# Altium footprint library servo.PcbLib: 33 footprints (part 1 of 3)
Each footprint in its own frame and in the unit in brackets; x right, y up, seen from the top. Pads: shape width x height; smd on the part's side, far side on the other; paste and mask are expansions set on the pad; w line width, h text height; cw(c..) or ccw(c..) is an arc to the next point about the centre after c.
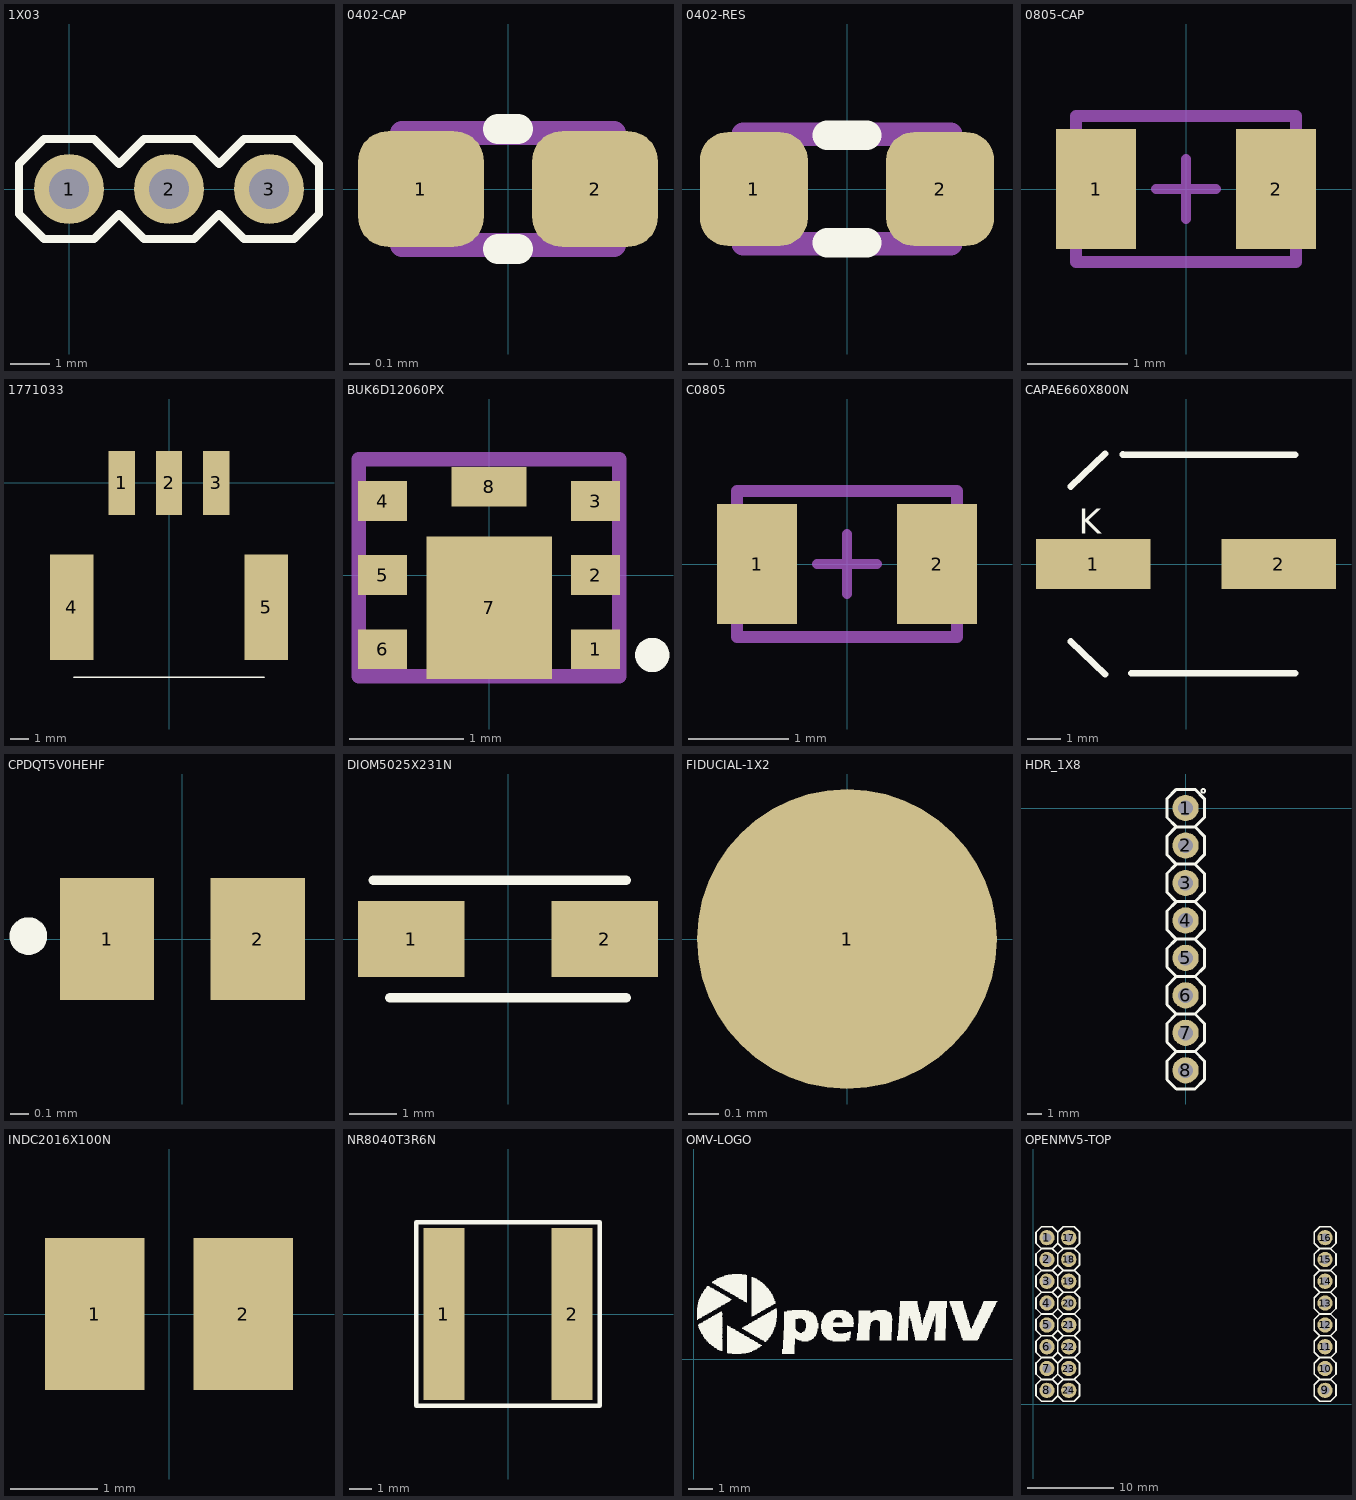
[diagram p0: the footprints below, top view; thin cyan lines are the x and y axes]

## 1X03 [mil] "1X03"
pads (3):
  round 70 hole 40: 1(0,0) 2(100,0) 3(200,0)
Top Overlay:
  lines w8: -50,-25 -25,-50 25,-50 50,-25 75,-50 125,-50 150,-25 175,-50 225,-50 250,-25 250,25 225,50 175,50 150,25 125,50 75,50 50,25 25,50 -25,50 -50,25 -50,-25

## 0402-CAP [mm] "0402-CAP"
pads (2):
  rrect52% 0.63x0.58 smd mask+0.05: 1(-0.435,0) 2(0.435,0)
Top Overlay:
  lines w0.15: -0.05,-0.3 0.05,-0.3 ; -0.05,0.3 0.05,0.3
Mechanical 13:
  lines w0.12: -0.53,-0.28 -0.53,0.28 0.53,0.28 0.53,-0.28 -0.53,-0.28
  text ".designator" at -0.432,-0.178 h0.3
3D body "CAP-0402.stp": height 0.5, standoff 0, extent -0.5,-0.25 0.5,0.25

## 0402-RES [mm] "0402-RES"
pads (2):
  rrect51% 0.55x0.58 smd mask+0.05: 1(-0.475,0) 2(0.475,0)
Top Overlay:
  lines w0.15: -0.1,-0.275 0.1,-0.275 ; -0.1,0.275 0.1,0.275
Mechanical 13:
  lines w0.12: -0.53,-0.28 0.53,-0.28 0.53,0.28 -0.53,0.28 -0.53,-0.28
  text ".designator" at -0.432,-0.152 h0.3
3D body "RES-0402.stp": height 0.34, standoff 0, extent -0.5,-0.25 0.5,0.25

## 0805-CAP [mil] "0805"
pads (2):
  rect 31.5x47.24 smd: 1(-35.43,0) 2(35.43,0)
Mechanical 13:
  lines w3.94: -11.81,0 0,0 ; 0,-11.81 0,0 ; 0,11.81 0,0 ; 11.81,0 0,0
  lines w4.72: -43.31,-28.74 43.31,-28.74 43.31,28.74 -43.31,28.74 -43.31,-28.74
  text ".designator" at -39.36,-24.6 h11.81
3D body "CAP-0805.stp": height 49.21, standoff 0, extent -39.36,-24.6 39.38,24.61

## 1771033 [mil] "1771033"
pads (5):
  rect 55.12x133.86 smd: 1(-98.43,0) 2(0,0) 3(98.43,0)
  rect 90.55x220.47 smd: 4(-202.76,-259.84) 5(202.76,-259.84)
Top Overlay:
  lines w3.94: -198.82,-405.51 198.82,-405.51
3D body "1771033.stp": height 201.85, standoff 0.21, extent -234.25,-405 234.25,28.07

## BUK6D12060PX [mm] "BUK6D12060PX"
pads (8):
  rect 0.43x0.35 smd mask+0.051: 1(0.935,-0.65) 2(0.935,0) 3(0.935,0.65) 4(-0.935,0.65) 5(-0.935,0) 6(-0.935,-0.65)
  rect 1.1x1.25 smd mask+0.051: 7(0,-0.285)
  rect 0.66x0.35 smd mask+0.051: 8(0,0.775)
Top Overlay:
  lines w0.2: 1.432,-0.751 ccw(c1.432,-0.701) 1.432,-0.651 ; 1.432,-0.751 cw(c1.432,-0.701) 1.432,-0.651 ; 1.432,-0.751 ccw(c1.432,-0.701) 1.432,-0.651
Mechanical 13:
  lines w0.127: -1.143,-0.889 -1.143,1.016 1.143,1.016 1.143,-0.889 -1.143,-0.889
  text ".designator" at -1.016,-1.016 h0.64
3D body: height 0.5, standoff 0, extent -1.143,-0.889 1.143,1.016

## C0805 [mil] "C0805"
pads (2):
  rect 31.5x47.24 smd: 1(-35.43,0) 2(35.43,0)
Mechanical 13:
  lines w3.94: -11.81,0 0,0 ; 0,-11.81 0,0 ; 0,11.81 0,0 ; 11.81,0 0,0
  lines w4.72: -43.31,-28.74 -43.31,28.74 43.31,28.74 43.31,-28.74 -43.31,-28.74
  text ".designator" at -39.36,-24.6 h11.81
3D body "CAP-0805.stp": height 49.21, standoff 0, extent -39.36,-24.6 39.38,24.61

## CAPAE660X800N [mm] "CAPAE660X800N"
pads (2):
  rect 3.45x1.5 smd: 1(-2.8,0) 2(2.8,0)
Top Overlay:
  lines w0.2: -3.48,-2.337 -2.438,-3.327 ; -3.48,2.337 -2.438,3.327 ; -1.905,3.302 3.3,3.3 ; -1.65,-3.3 3.3,-3.3
  text "K" at -3.231,0.909 h0.76
3D body "EXV-9H_KEM.step": height 8.05, standoff 0, extent -3.899,-3.404 3.899,3.404

## CPDQT5V0HEHF [mm] "CPDQT5V0HEHF"
pads (2):
  rect 0.5x0.65 smd: 1(-0.4,0) 2(0.4,0)
Top Overlay:
  lines w0.1: -0.867,0.015 ccw(c-0.817,0.015) -0.767,0.015 ccw(c-0.817,0.015) -0.867,0.015
3D body "RES-0402.stp": height 0.34, standoff 0, extent -0.498,-0.254 0.502,0.246

## DIOM5025X231N [mil] "DIOM5025X231N"
pads (2):
  rect 88.58x62.99 smd: 1(-80.71,0) 2(80.71,0)
Top Overlay:
  lines w7.87: -112.2,48.9 98.5,48.9 ; -98.5,-48.9 98.5,-48.9
3D body: height 78.74, standoff 0, extent -88.58,-48.23 88.58,50.2

## FIDUCIAL-1X2 [mm] "FIDUCIAL-1X2"
pads (1):
  rrect100% 1x1 smd paste+0: 1(0,0)

## HDR_1X8 [mil]
pads (8):
  round 70 hole 40: 1(0,0) 2(0,-100) 3(0,-200) 4(0,-300) 5(0,-400) 6(0,-500) 7(0,-600) 8(0,-700)
Top Overlay:
  circle w5: c46.99,45.8 r5
  lines w8: -25,-650 25,-650 ; -25,-650 -50,-675 -50,-725 -25,-750 25,-750 50,-725 50,-675 25,-650 ; -25,-650 -50,-625 -50,-575 -25,-550 ; -25,-550 25,-550 ; -25,-550 -50,-525 -50,-475 -25,-450 ; -25,-450 25,-450 ; -25,-450 -50,-425 -50,-375 -25,-350 ; -25,-350 25,-350 ; -25,-350 -50,-325 -50,-275 -25,-250 ; -25,-250 25,-250 ; -25,-250 -50,-225 -50,-175 -25,-150 ; -25,-150 25,-150 ; -25,-150 -50,-125 -50,-75 -25,-50 ; -25,-50 25,-50 ; -25,-50 -50,-25 -50,25 -25,50 25,50 50,25 50,-25 25,-50 ; 25,-650 50,-625 50,-575 25,-550 ; 25,-550 50,-525 50,-475 25,-450 ; 25,-450 50,-425 50,-375 25,-350 ; 25,-350 50,-325 50,-275 25,-250 ; 25,-250 50,-225 50,-175 25,-150 ; 25,-150 50,-125 50,-75 25,-50
3D body "960240.STEP": height 334.65, standoff -412.98, extent -50,-750 50,50

## INDC2016X100N [mm] "INDC2016X100N"
pads (2):
  rect 1.14x1.73 smd: 1(-0.847,0) 2(0.847,0)
3D body: height 1, standoff 0, extent -1,-0.8 1,0.8

## NR8040T3R6N [mil] "NR8040T3R6N"
pads (2):
  rect 70.87x295.28 smd: 1(-110.24,0) 2(110.24,0)
Top Overlay:
  lines w7.87: -157.48,-157.48 157.48,-157.48 157.48,157.48 -157.48,157.48 -157.48,-157.48
Mechanical 13:
  lines w5: -157.48,-157.48 -157.48,157.48 157.48,157.48 157.48,-157.48 -157.48,-157.48
3D body: height 157.48, standoff 0, extent -157.48,-157.48 157.48,157.48

## OMV-LOGO [mil] "OMV-LOGO"
Top Overlay:
  drawing of 881 lines, arcs and shapes, not listed

## OPENMV5-TOP [mil] "OPENMV5-TOP"
pads (24):
  round 70 / inner round 0 / far side round 70 hole 40: 1(62.99,762.99) 2(62.99,662.99) 3(62.99,562.99) 4(62.99,462.99) 5(62.99,362.99) 6(62.99,262.99) 7(62.99,162.99) 8(62.99,62.99) 9(1338.58,62.99) 10(1338.58,162.99) 11(1338.58,262.99) 12(1338.58,362.99) 13(1338.58,462.99) 14(1338.58,562.99) 15(1338.58,662.99) 16(1338.58,762.99) 17(162.99,762.99) 18(162.99,662.99) 19(162.99,562.99) 20(162.99,462.99) 21(162.99,362.99) 22(162.99,262.99) 23(162.99,162.99) 24(162.99,62.99)
Top Overlay:
  drawing of 163 lines, arcs and shapes, not listed